# Altium schematic symbol library Switch_and_button.SchLib: 1 symbol
Pins are listed as number, name and electrical type; pins without a type are passive.

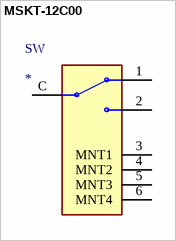
[diagram p0: symbol MSKT-12C00]

## MSKT-12C00
designator SW
pins: 1, 2, 3 MNT1, 4 MNT2, 5 MNT3, 6 MNT4, C